# Altium footprint library Lib Marius.PcbLib: 393 footprints (part 24 of 25)
Each footprint in its own frame and in the unit in brackets; x right, y up, seen from the top. Pads: shape width x height; smd on the part's side, far side on the other; paste and mask are expansions set on the pad; w line width, h text height; cw(c..) or ccw(c..) is an arc to the next point about the centre after c.
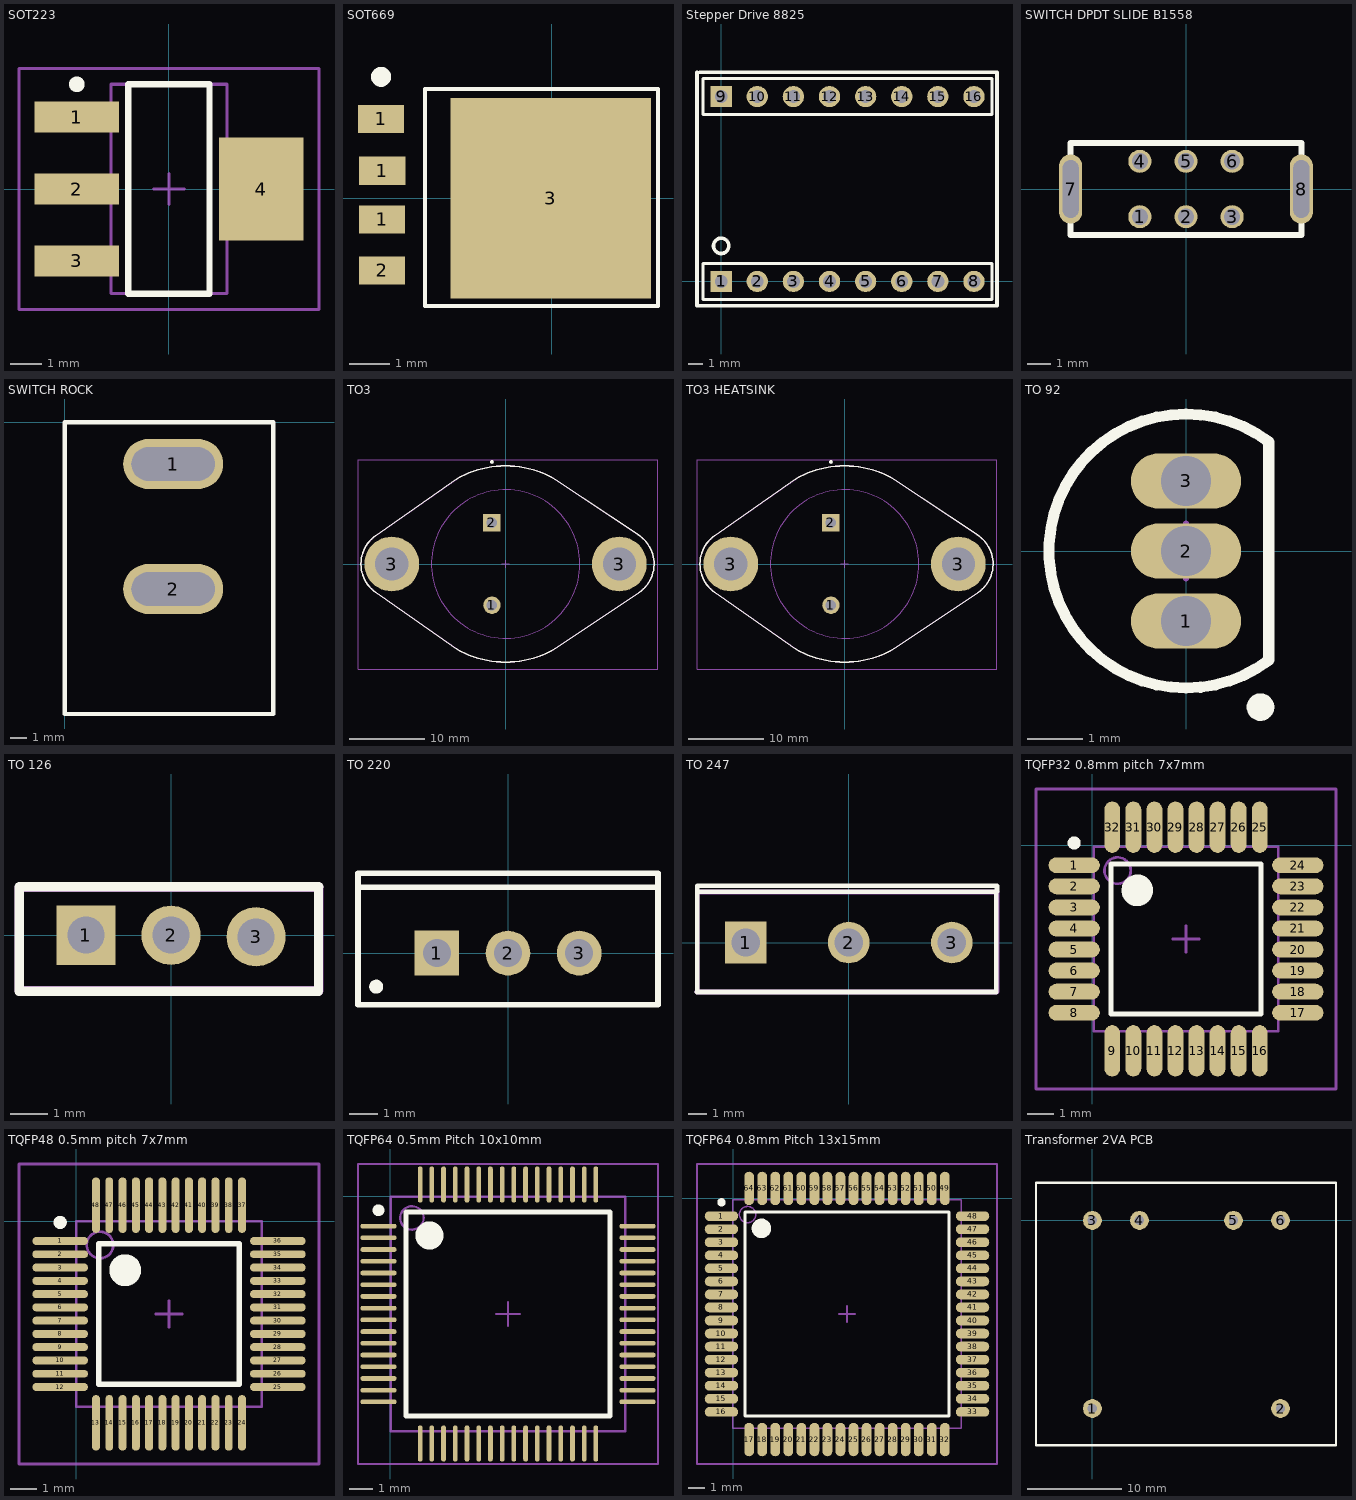
[diagram p23: the footprints below, top view; thin cyan lines are the x and y axes]

## SOT223 [mm] "SOT223, 4-Leads, Body 6.5x3.5mm, Pitch 2.3mm, Lead Span 7mm, IPC Low Density"
height 1.7
pads (4):
  rect 2.7x1 smd: 1(-2.95,2.3) 2(-2.95,0) 3(-2.95,-2.3)
  rect 2.7x3.3 smd: 4(2.95,0)
Top Overlay:
  circle w0.25: c-2.95,3.35 r0.125
  lines w0.2: -1.3,-3.35 1.3,-3.35 1.3,3.35 -1.3,3.35 -1.3,-3.35
Mechanical 13:
  lines w0.1: -1.85,-3.35 1.85,-3.35 1.85,3.35 -1.85,3.35 -1.85,-3.35
Mechanical 15:
  lines w0.1: -0.5,0 0.5,0 ; 0,-0.5 0,0.5 ; -4.8,-3.85 4.8,-3.85 4.8,3.85 -4.8,3.85 -4.8,-3.85
3D body: height 1.7, standoff 0, extent -1.85,-3.35 1.85,3.35

## SOT669 [mm] "LFPAK65"
height 1.7
pads (5):
  rect 1.15x0.7 smd: 1(-4.253,1.972) 1(-4.227,-0.533) 1(-4.225,0.68) 2(-4.227,-1.803)
  rect 5x5 smd: 3(-0.018,0)
Top Overlay:
  circle w0.25: c-4.253,3.022 r0.125
  lines w0.1: -3.153,-2.697 -3.153,2.714 2.653,2.714 2.653,-2.697 -3.153,-2.697
Mechanical 15:
  lines w0.1: -1.803,-0.328 -0.803,-0.328 ; -1.303,-0.828 -1.303,0.172

## Stepper Drive 8825 [mm] "Stepper Drive"
pads (16):
  rect 1.5x1.5 hole 0.9: 1(0,0) 9(0,13)
  round 1.5 hole 0.9: 2(2.54,0) 3(5.08,0) 4(7.62,0) 5(10.16,0) 6(12.7,0) 7(15.24,0) 8(17.78,0) 10(2.54,13) 11(5.08,13) 12(7.62,13) 13(10.16,13) 14(12.7,13) 15(15.24,13) 16(17.78,13)
Top Overlay:
  circle w0.254: c0,2.5 r0.539
  lines w0.2: -1.27,-1.27 -1.27,1.27 19.05,1.27 19.05,-1.27 -1.27,-1.27 ; -1.27,11.73 19.05,11.73 19.05,14.27 -1.27,14.27 -1.27,11.73
  lines w0.254: -1.7,14.7 -1.7,-1.7 19.4,-1.7 19.4,14.7 -1.5,14.7

## SWITCH DPDT SLIDE B1558 [mm] "Slide Switch DPDT"
height 1.45
pads (8):
  round 1 hole 0.7: 1(-2,-1.2) 2(0,-1.2) 3(2,-1.2) 4(-2,1.2) 5(0,1.2) 6(2,1.2)
  oval 1x3 hole 0.7 slot 2.5 at 90 deg: 7(-5,0) 8(5,0)
Top Overlay:
  lines w0.254: -5,-2 -5,2 5,2 5,-2 -5,-2
3D body: height 6, standoff 0, extent -5,-2 5,2
3D body: height 5, standoff 2, extent 0,-6 3,-2

## SWITCH ROCK [mm] "Slide Switch DPDT"
height 1.45
pads (2):
  oval 6x3 hole 2 slot 5 at 0 deg: 1(6.5,-2.5) 2(6.5,-10)
Top Overlay:
  lines w0.254: 0,-17.5 0,0 12.5,0 12.5,-17.5 0,-17.5
3D body "Switch - Rocker v3.step": height 21, standoff -8, extent -0.7,-18.4 14.3,2.6

## TO3 [mm] "Oval Flange Mount with (2) Offset Leads; Pin Spacing 10.93 mm; Lead Dia. 1.09 mm (max)"
height 8.94
pads (4):
  round 2.3 hole 1.4: 1(-1.815,-5.46)
  rect 2.3x2.3 hole 1.4: 2(-1.815,5.46)
  round 7.25 hole 4.4: 3(-15.075,0) 3(15.075,0)
Top Overlay:
  circle w0.25: c-1.815,13.53 r0.125
  lines w0.2: -17.2,-3.767 cw(c-14.561,0.001) -17.2,3.769 -6.5,11.258 cw(c0,0) 6.5,11.258 17.58,3.858 cw(c15.075,0) 17.713,-3.768 6.5,-11.258 cw(c0,0) -6.5,-11.258 -17.2,-3.767
Top Solder:
  region: -19.5,14 -19.5,-14 20,-14 20,14
Mechanical 13:
  circle w0.1: c0,0 r9.84
  lines w0.1: -17.2,-3.767 cw(c-14.561,0.001) -17.2,3.769 -6.5,11.258 cw(c0,0) 6.5,11.258 17.58,3.858 cw(c15.075,0) 17.713,-3.768 6.5,-11.258 cw(c0,0) -6.5,-11.258 -17.2,-3.767
Mechanical 15:
  lines w0.1: -0.5,0 0.5,0 ; 0,-0.5 0,0.5 ; -19.558,-13.97 20.193,-13.97 20.193,13.843 -19.558,13.843 -19.558,-13.97
3D body: height 11.44, standoff 4.25, extent -9.851,-9.851 9.851,9.851
3D body: height 4.25, standoff 2.5, extent -19.172,-13.013 19.685,13.013

## TO3 HEATSINK [mm] "Oval Flange Mount with (2) Offset Leads; Pin Spacing 10.93 mm; Lead Dia. 1.09 mm (max)"
height 8.94
pads (4):
  round 2.3 hole 1.4: 1(-1.815,-5.46)
  rect 2.3x2.3 hole 1.4: 2(-1.815,5.46)
  round 7.25 hole 4.4: 3(-15.075,0) 3(15.075,0)
Top Overlay:
  circle w0.25: c-1.815,13.53 r0.125
  lines w0.2: -17.2,-3.767 cw(c-14.561,0.001) -17.2,3.769 -6.5,11.258 cw(c0,0) 6.5,11.258 17.58,3.858 cw(c15.075,0) 17.713,-3.768 6.5,-11.258 cw(c0,0) -6.5,-11.258 -17.2,-3.767
Top Solder:
  region: -19.5,14 -19.5,-14 20,-14 20,14
Mechanical 13:
  circle w0.1: c0,0 r9.84
  lines w0.1: -17.2,-3.767 cw(c-14.561,0.001) -17.2,3.769 -6.5,11.258 cw(c0,0) 6.5,11.258 17.58,3.858 cw(c15.075,0) 17.713,-3.768 6.5,-11.258 cw(c0,0) -6.5,-11.258 -17.2,-3.767
Mechanical 15:
  lines w0.1: -0.5,0 0.5,0 ; 0,-0.5 0,0.5 ; -19.558,-13.97 20.193,-13.97 20.193,13.843 -19.558,13.843 -19.558,-13.97
3D body: height 11.44, standoff 4.25, extent -9.851,-9.851 9.851,9.851
3D body: height 4.25, standoff 2.5, extent -19.172,-13.013 19.685,13.013
3D body "Heatsink.STEP": height 12.49, standoff 0, extent -20.724,-16.634 20.876,16.561

## TO 92 [mm] "TO, Flat Index; 3 In-Line, Axial Leads; Body Dia. 4.5mm; Leads 0.51 x 0.48 mm (max)"
height 6.86
pads (3):
  oval 2x1 hole 0.9: 1(0,-1.27) 2(0,0) 3(0,1.27)
Top Overlay:
  circle w0.25: c1.35,-2.83 r0.125
  lines w0.2: 1.5,-1.98 cw(c0,0) 1.5,1.98 1.5,-1.98
Mechanical 13:
  lines w0.1: 1.5,-1.98 cw(c0,0) 1.5,1.98 1.5,-1.98
Mechanical 15:
  lines w0.1: -0.5,0 0.5,0 ; 0,-0.5 0,0.5
3D body: height 6.86, standoff 2.2, extent -2.485,-2.495 1.501,2.495

## TO 126 [mm] "TO, Thru-Hole, Vertical, Heatsink Mounted; 3 In-Line Leads; Pitch 2.54 mm"
height 19.3
pads (3):
  rect 1.6x1.6 hole 1: 1(-2.3,0)
  round 1.6 hole 1: 2(0,0) 3(2.3,-0.042)
Top Overlay:
  lines w0.254: -4.102,1.281 -4.102,-1.506 -4.109,-1.513 3.98,-1.513 3.987,-1.52 3.987,1.308 3.994,1.315 -4.102,1.315
Mechanical 15:
  lines w0.1: -0.5,0 0.5,0 ; 0,-0.5 0,0.5
  lines w0.254: -4.1,1.3 -4.1,-1.5 4,-1.5 4,1.3 -4,1.3
3D body "TO126.STEP": height 14, standoff -3, extent -4.013,-1.4 3.987,1.3

## TO 220 [mm] "TO, Thru-Hole, Vertical, Heatsink Mounted; 3 In-Line Leads; Pitch 2.54 mm"
height 19.3
pads (3):
  rect 1.6x1.6 hole 1: 1(-2.54,0)
  round 1.6 hole 1: 2(0,0) 3(2.54,0)
Top Overlay:
  circle w0.25: c-4.7,-1.2 r0.125
  lines w0.2: -5.35,2.35 5.35,2.35 ; -5.35,-1.85 -5.35,2.85 5.35,2.85 5.35,-1.85 -5.35,-1.85
Mechanical 13:
  lines w0.1: -5.35,-1.85 5.35,-1.85 5.35,2.85 -5.35,2.85 -5.35,-1.85
Mechanical 15:
  lines w0.1: -0.5,0 0.5,0 ; 0,-0.5 0,0.5
3D body "TO220.STEP": height 22, standoff -7.93, extent -5.2,-1.65 5.2,3.1

## TO 247 [mm] "TO, Thru-Hole, Vertical, Heatsink Mounted; 3 In-Line Leads; Pitch 2.54 mm"
height 19.3
pads (3):
  rect 2.2x2.2 hole 1.5: 1(-5.45,0)
  round 2.2 hole 1.5: 2(0,0) 3(5.45,0)
Top Overlay:
  lines w0.254: -8.007,2.684 7.816,2.684 ; 7.816,2.684 7.793,2.66 7.793,-2.626 7.781,-2.614 -8.02,-2.614 -8.002,-2.596 -8.002,2.701 -8.002,2.998 -8,3 7.835,3 7.835,2.702 7.816,2.684
Mechanical 15:
  lines w0.1: -0.5,0 0.5,0 ; 0,-0.5 0,0.5
  lines w0.254: -8.02,-2.614 7.817,-2.614 7.835,-2.596 7.835,2.665 -7.966,2.665 -8.002,2.701 -8.002,-2.56 -8.02,-2.578
3D body "TO247.STEP": height 25, standoff -11.05, extent -8.007,-2.626 7.793,2.684

## TQFP32 0.8mm pitch 7x7mm [mm] "32-Pin Thin Quad Flat Pack 0.8 mm Pitch, IPC Low Density"
height 1.2
pads (32):
  oval 1.95x0.6 smd: 1(-0.694,-0.756) 2(-0.694,-1.556) 3(-0.694,-2.356) 4(-0.694,-3.156) 5(-0.694,-3.956) 6(-0.694,-4.756) 7(-0.694,-5.556) 8(-0.694,-6.356) 17(7.806,-6.356) 18(7.806,-5.556) 19(7.806,-4.756) 20(7.806,-3.956) 21(7.806,-3.156) 22(7.806,-2.356) 23(7.806,-1.556) 24(7.806,-0.756)
  oval 0.6x1.95 smd: 9(0.756,-7.806) 10(1.556,-7.806) 11(2.356,-7.806) 12(3.156,-7.806) 13(3.956,-7.806) 14(4.756,-7.806) 15(5.556,-7.806) 16(6.356,-7.806) 25(6.356,0.694) 26(5.556,0.694) 27(4.756,0.694) 28(3.956,0.694) 29(3.156,0.694) 30(2.356,0.694) 31(1.556,0.694) 32(0.756,0.694)
Top Overlay:
  circle w0.25: c-0.694,0.094 r0.125
  circle w0.6: c1.706,-1.706 r0.3
  lines w0.2: 0.706,-6.406 0.706,-0.706 6.406,-0.706 6.406,-6.406 0.706,-6.406
Mechanical 13:
  circle w0.1: c0.956,-0.956 r0.5
  lines w0.1: 0.056,-7.056 0.056,-0.056 7.056,-0.056 7.056,-7.056 0.056,-7.056
Mechanical 15:
  lines w0.1: 3.056,-3.556 4.056,-3.556 ; 3.556,-4.056 3.556,-3.056 ; -2.144,-9.256 -2.144,2.144 9.256,2.144 9.256,-9.256 -2.144,-9.256
3D body: height 1.2, standoff 0, extent 0.056,-7.056 7.056,-0.056

## TQFP48 0.5mm pitch 7x7mm [mm] "Thin QFP, 48-Leads, Body 7x7mm, Pitch 0.5mm, IPC Low Density"
height 1.2
pads (48):
  oval 2.1x0.3 smd: 1(-0.6,-0.75) 2(-0.6,-1.25) 3(-0.6,-1.75) 4(-0.6,-2.25) 5(-0.6,-2.75) 6(-0.6,-3.25) 7(-0.6,-3.75) 8(-0.6,-4.25) 9(-0.6,-4.75) 10(-0.6,-5.25) 11(-0.6,-5.75) 12(-0.6,-6.25) 25(7.6,-6.25) 26(7.6,-5.75) 27(7.6,-5.25) 28(7.6,-4.75) 29(7.6,-4.25) 30(7.6,-3.75) 31(7.6,-3.25) 32(7.6,-2.75) 33(7.6,-2.25) 34(7.6,-1.75) 35(7.6,-1.25) 36(7.6,-0.75)
  oval 0.3x2.1 smd: 13(0.75,-7.6) 14(1.25,-7.6) 15(1.75,-7.6) 16(2.25,-7.6) 17(2.75,-7.6) 18(3.25,-7.6) 19(3.75,-7.6) 20(4.25,-7.6) 21(4.75,-7.6) 22(5.25,-7.6) 23(5.75,-7.6) 24(6.25,-7.6) 37(6.25,0.6) 38(5.75,0.6) 39(5.25,0.6) 40(4.75,0.6) 41(4.25,0.6) 42(3.75,0.6) 43(3.25,0.6) 44(2.75,0.6) 45(2.25,0.6) 46(1.75,0.6) 47(1.25,0.6) 48(0.75,0.6)
Top Overlay:
  circle w0.6: c1.85,-1.85 r0.3
  circle w0.25: c-0.6,-0.05 r0.125
  lines w0.2: 0.85,-6.15 6.15,-6.15 6.15,-0.85 0.85,-0.85 0.85,-6.15
Mechanical 13:
  circle w0.1: c0.9,-0.9 r0.5
  lines w0.1: 0,-7 7,-7 7,0 0,0 0,-7
Mechanical 15:
  lines w0.1: 3,-3.5 4,-3.5 ; 3.5,-4 3.5,-3 ; -2.15,-9.15 9.15,-9.15 9.15,2.15 -2.15,2.15 -2.15,-9.15
3D body: height 1.2, standoff 0, extent 0,-7 7,0

## TQFP64 0.5mm Pitch 10x10mm [mm] "Thin QFP, 64-Leads, Body 10x10mm, Pitch 0.5mm, IPC High Density"
height 1.2
pads (64):
  oval 1.55x0.2 smd: 1(-0.508,-1.27) 2(-0.508,-1.77) 3(-0.508,-2.27) 4(-0.508,-2.77) 5(-0.508,-3.27) 6(-0.508,-3.77) 7(-0.508,-4.27) 8(-0.508,-4.77) 9(-0.508,-5.27) 10(-0.508,-5.77) 11(-0.508,-6.27) 12(-0.508,-6.77) 13(-0.508,-7.27) 14(-0.508,-7.77) 15(-0.508,-8.27) 16(-0.508,-8.77) 33(10.542,-8.77) 34(10.542,-8.27) 35(10.542,-7.77) 36(10.542,-7.27) 37(10.542,-6.77) 38(10.542,-6.27) 39(10.542,-5.77) 40(10.542,-5.27) 41(10.542,-4.77) 42(10.542,-4.27) 43(10.542,-3.77) 44(10.542,-3.27) 45(10.542,-2.77) 46(10.542,-2.27) 47(10.542,-1.77) 48(10.542,-1.27)
  oval 0.2x1.55 smd: 17(1.267,-10.545) 18(1.767,-10.545) 19(2.267,-10.545) 20(2.767,-10.545) 21(3.267,-10.545) 22(3.767,-10.545) 23(4.267,-10.545) 24(4.767,-10.545) 25(5.267,-10.545) 26(5.767,-10.545) 27(6.267,-10.545) 28(6.767,-10.545) 29(7.267,-10.545) 30(7.767,-10.545) 31(8.267,-10.545) 32(8.767,-10.545) 49(8.767,0.505) 50(8.267,0.505) 51(7.767,0.505) 52(7.267,0.505) 53(6.767,0.505) 54(6.267,0.505) 55(5.767,0.505) 56(5.267,0.505) 57(4.767,0.505) 58(4.267,0.505) 59(3.767,0.505) 60(3.267,0.505) 61(2.767,0.505) 62(2.267,0.505) 63(1.767,0.505) 64(1.267,0.505)
Top Overlay:
  circle w0.6: c1.667,-1.67 r0.3
  circle w0.25: c-0.508,-0.595 r0.125
  lines w0.2: 0.667,-9.37 9.367,-9.37 9.367,-0.67 0.667,-0.67 0.667,-9.37
Mechanical 13:
  circle w0.1: c0.917,-0.92 r0.5
  lines w0.1: 0.017,-10.02 10.017,-10.02 10.017,-0.02 0.017,-0.02 0.017,-10.02
Mechanical 15:
  lines w0.1: 4.517,-5.02 5.517,-5.02 ; 5.017,-5.52 5.017,-4.52 ; -1.383,-11.42 11.417,-11.42 11.417,1.38 -1.383,1.38 -1.383,-11.42
3D body: height 1.2, standoff 0, extent 0.017,-10.02 10.017,-0.02

## TQFP64 0.8mm Pitch 13x15mm [mm] "64-Pin Thin Quad Flat Pack 0.8 mm Pitch, IPC Low Density"
height 1.2
pads (64):
  oval 2.05x0.6 smd: 1(-0.715,-1.112) 2(-0.715,-1.912) 3(-0.715,-2.712) 4(-0.715,-3.512) 5(-0.715,-4.312) 6(-0.715,-5.112) 7(-0.715,-5.912) 8(-0.715,-6.712) 9(-0.715,-7.512) 10(-0.715,-8.312) 11(-0.715,-9.112) 12(-0.715,-9.912) 13(-0.715,-10.712) 14(-0.715,-11.512) 15(-0.715,-12.312) 16(-0.715,-13.112) 33(14.685,-13.112) 34(14.685,-12.312) 35(14.685,-11.512) 36(14.685,-10.712) 37(14.685,-9.912) 38(14.685,-9.112) 39(14.685,-8.312) 40(14.685,-7.512) 41(14.685,-6.712) 42(14.685,-5.912) 43(14.685,-5.112) 44(14.685,-4.312) 45(14.685,-3.512) 46(14.685,-2.712) 47(14.685,-1.912) 48(14.685,-1.112)
  oval 0.6x2.05 smd: 17(0.985,-14.812) 18(1.785,-14.812) 19(2.585,-14.812) 20(3.385,-14.812) 21(4.185,-14.812) 22(4.985,-14.812) 23(5.785,-14.812) 24(6.585,-14.812) 25(7.385,-14.812) 26(8.185,-14.812) 27(8.985,-14.812) 28(9.785,-14.812) 29(10.585,-14.812) 30(11.385,-14.812) 31(12.185,-14.812) 32(12.985,-14.812) 49(12.985,0.588) 50(12.185,0.588) 51(11.385,0.588) 52(10.585,0.588) 53(9.785,0.588) 54(8.985,0.588) 55(8.185,0.588) 56(7.385,0.588) 57(6.585,0.588) 58(5.785,0.588) 59(4.985,0.588) 60(4.185,0.588) 61(3.385,0.588) 62(2.585,0.588) 63(1.785,0.588) 64(0.985,0.588)
Top Overlay:
  circle w0.25: c-0.715,-0.262 r0.125
  circle w0.6: c1.735,-1.862 r0.3
  lines w0.2: 0.735,-13.362 0.735,-0.862 13.235,-0.862 13.235,-13.362 0.735,-13.362
Mechanical 13:
  circle w0.1: c0.885,-1.012 r0.5
  lines w0.1: -0.015,-14.112 -0.015,-0.112 13.985,-0.112 13.985,-14.112 -0.015,-14.112
Mechanical 15:
  lines w0.1: 6.485,-7.112 7.485,-7.112 ; 6.985,-7.612 6.985,-6.612 ; -2.215,-16.312 -2.215,2.088 16.185,2.088 16.185,-16.312 -2.215,-16.312
3D body: height 1.2, standoff 0, extent -0.015,-14.112 13.985,-0.112

## Transformer 2VA PCB [mm] "Thru-Hole; 3 Leads"
pads (6):
  round 2 hole 1: 1(0,-20) 2(20,-20) 3(0,0) 4(5,0) 5(15,0) 6(20,0)
Top Overlay:
  lines w0.254: -6,-23.9 25.9,-23.9 25.9,4 0,4 -6,4 -6,-23.9
3D body: height 27.3, standoff 0, extent -6,-24 26.1,4